# EAGLE library part LM710 (library µA_UA_LM710)
LM710 / UA710 / µA710 / A110 / B110 Comparator tr=40ns
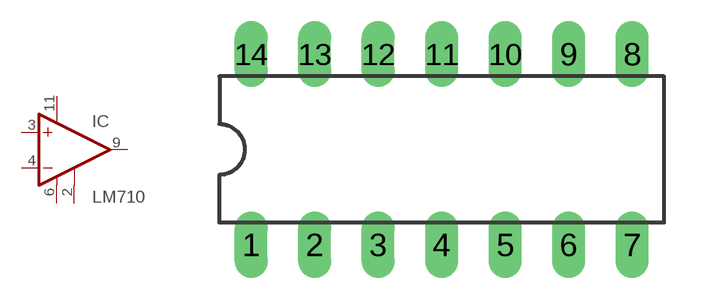
[diagram p0: symbol with the pads of DIL-14; footprint DIL-14]

Designator prefix IC

## LM710  [DIL-14]
2  GND  pwr
3  +IN  in
4  -IN  in
6  V-  pwr
9  OUT  out
11  V+  pwr

## Footprint DIL-14 (pad centres in mm)
drill 0.813 long: 1 -7.62,-3.81; 2 -5.08,-3.81; 3 -2.54,-3.81; 4 0,-3.81; 5 2.54,-3.81; 6 5.08,-3.81; 7 7.62,-3.81; 8 7.62,3.81; 9 5.08,3.81; 10 2.54,3.81; 11 0,3.81; 12 -2.54,3.81; 13 -5.08,3.81; 14 -7.62,3.81